# Altium footprint library powerDevices.PcbLib: 11 footprints
Each footprint in its own frame and in the unit in brackets; x right, y up, seen from the top. Pads: shape width x height; smd on the part's side, far side on the other; paste and mask are expansions set on the pad; w line width, h text height; cw(c..) or ccw(c..) is an arc to the next point about the centre after c.
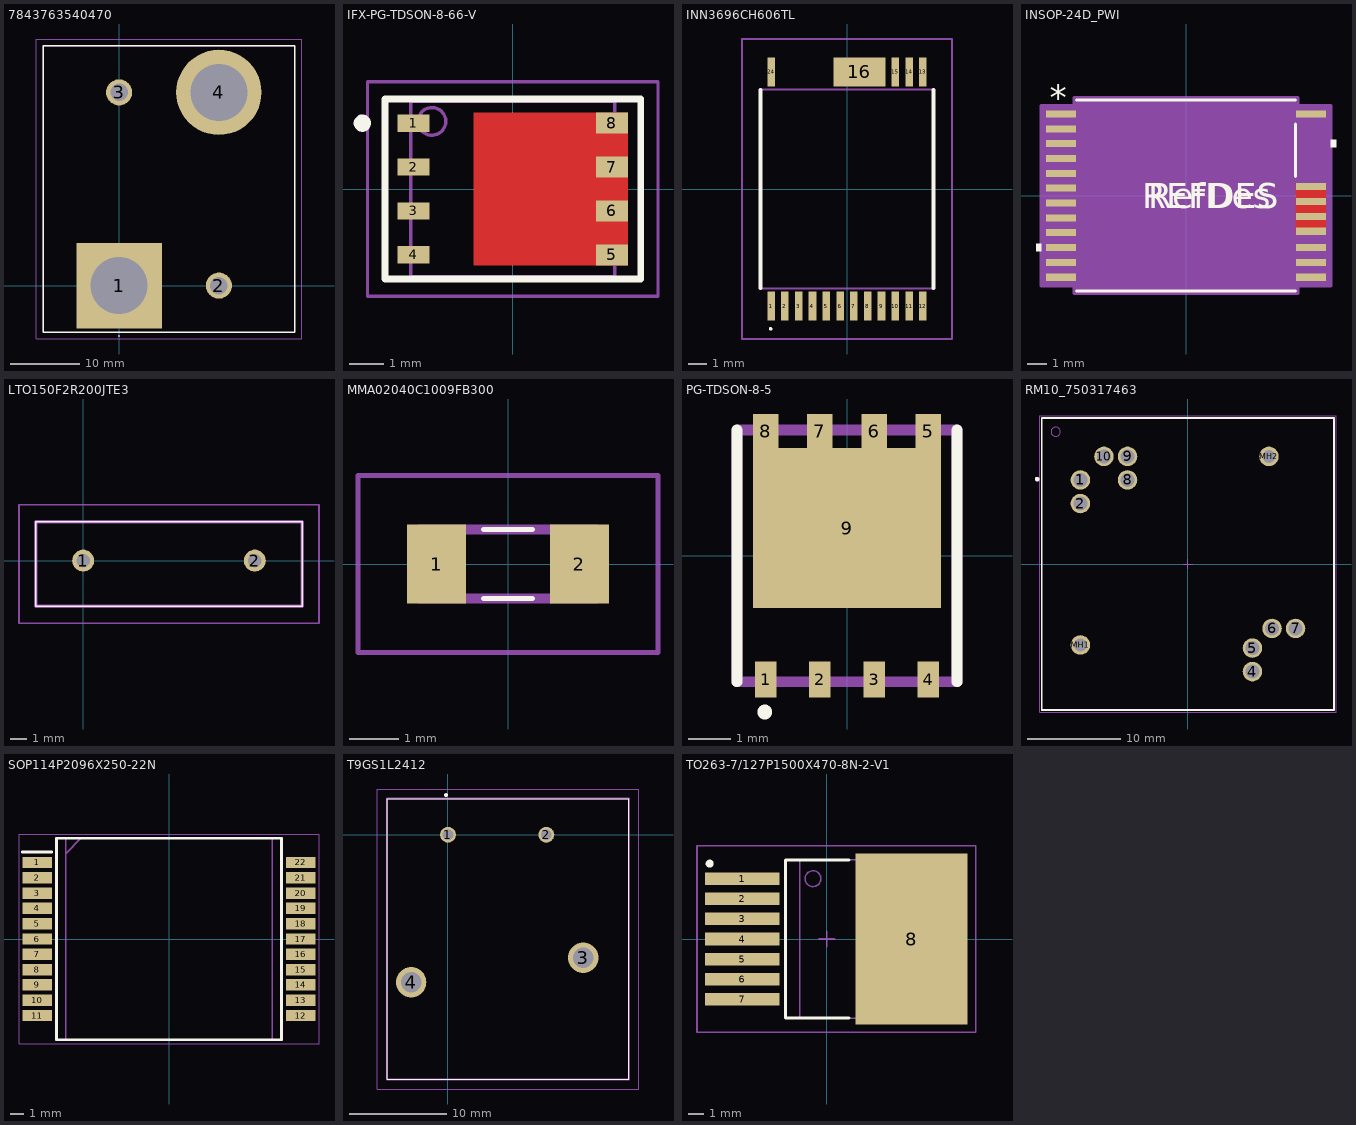
[diagram p0: the footprints below, top view; thin cyan lines are the x and y axes]

## 7843763540470 [mm]
pads (4):
  rect 12.24x12.24 hole 8.16: 1(0,0)
  round 3.75 hole 2.5: 2(14.3,0) 3(0,27.7)
  round 12.24 hole 8.16: 4(14.3,27.7)
Top Overlay:
  lines w0.1: 0,-7.25 ccw(c0,-7.2) 0,-7.15 ccw(c0,-7.2) 0,-7.25
  lines w0.2: -10.85,-6.65 25.15,-6.65 25.15,34.35 -10.85,34.35 -10.85,-6.65
Mechanical 13:
  lines w0.1: -10.85,-6.65 25.15,-6.65 25.15,34.35 -10.85,34.35 -10.85,-6.65
Mechanical 15:
  lines w0.1: -11.85,-7.65 26.15,-7.65 26.15,35.35 -11.85,35.35 -11.85,-7.65
3D body "7843763540470.stp": height 35.1, standoff -5, extent -10.85,-6.65 25.15,34.35

## IFX-PG-TDSON-8-66-V [mm] "PG-TDSON-8-66, SMD, 1.27 mm pitch, 8 pin, 5.90 mm L X 5.075 mm W X 1.20 mm H body"
height 1.2
pads (8):
  rect 0.925x0.5 smd paste-0.05 mask+0: 1(-2.863,1.905) 2(-2.863,0.635) 3(-2.863,-0.635) 4(-2.863,-1.905)
  rect 0.925x0.6 smd paste-0.3 mask+0: 5(2.863,-1.905) 6(2.863,-0.635) 7(2.863,0.635) 8(2.863,1.905)
Top Layer:
  region: 3.325,-2.205 3.325,2.205 -1.13,2.205 -1.13,-2.205
Top Overlay:
  circle w0.25: c-4.35,1.905 r0.125
  lines w0.2: -3.7,-2.6 3.7,-2.6 3.7,2.6 -3.7,2.6 -3.7,-2.6
Top Paste:
  region: -0.875,1.6 0.625,1.6 0.625,0.1 -0.875,0.1
  region: 2.525,1.655 2.525,2.155 3.275,2.155 3.275,1.655
  region: 2.525,0.385 2.525,0.885 3.275,0.885 3.275,0.385
  region: 2.525,-0.885 2.525,-0.385 3.275,-0.385 3.275,-0.885
  region: 2.525,-2.155 2.525,-1.655 3.275,-1.655 3.275,-2.155
  region: 0.825,1.6 2.325,1.6 2.325,0.1 0.825,0.1
  region: -0.875,-1.6 0.625,-1.6 0.625,-0.1 -0.875,-0.1
  region: 0.825,-1.6 2.325,-1.6 2.325,-0.1 0.825,-0.1
Top Solder:
  region: -1.129,-2.205 -1.129,2.205 2.526,2.205 2.526,-2.205
Top 3D Body:
  text ".DESIGNATOR" at -3.643,-0.385 h1.2
Mechanical 13:
  circle w0.1: c-2.337,1.956 r0.4
  lines w0.1: -2.95,-2.538 2.95,-2.538 2.95,2.538 -2.95,2.538 -2.95,-2.538
Mechanical 15:
  lines w0.1: -0.5,0 0.5,0 ; 0,-0.5 0,0.5 ; -4.2,-3.1 -4.2,3.1 4.2,3.1 4.2,-3.1 -4.2,-3.1
3D body "PG-TDSON-8-1_Z8B00003242_V11_3D.stp": height 1.01, standoff 0, extent -3.075,-2.695 3.075,2.695

## INN3696CH606TL [mm]
pads (17):
  rect 0.41x1.58 smd: 1(-4.125,-6.36) 2(-3.375,-6.36) 3(-2.625,-6.36) 4(-1.875,-6.36) 5(-1.125,-6.36) 6(-0.375,-6.36) 7(0.375,-6.36) 8(1.125,-6.36) 9(1.875,-6.36) 10(2.625,-6.36) 11(3.375,-6.36) 12(4.125,-6.36) 13(4.125,6.36) 14(3.375,6.36) 15(2.625,6.36) 24(-4.125,6.36)
  rect 2.81x1.58 smd: 16(0.675,6.36)
Top Overlay:
  lines w0.1: -4.2,-7.6 cw(c-4.15,-7.6) -4.1,-7.6 cw(c-4.15,-7.6) -4.2,-7.6
  lines w0.2: -4.7,-5.4 -4.7,5.4 ; 4.7,-5.4 4.7,5.4
Mechanical 13:
  lines w0.1: -4.7,-5.4 -4.7,5.4 4.7,5.4 4.7,-5.4 -4.7,-5.4
Mechanical 15:
  lines w0.1: -5.7,-8.15 -5.7,8.15 5.7,8.15 5.7,-8.15 -5.7,-8.15
3D body "INN3696C-H606-TL.stp": height 1.6, standoff 0, extent -4.7,-6.715 4.7,6.715

## INSOP-24D_PWI [mil]
pads (20):
  rect 60x14 smd paste+0 mask+0: 1(-248.5,162.4) 2(-248.5,132.87) 3(-248.5,103.35) 4(-248.5,73.82) 5(-248.5,44.29) 6(-248.5,14.76) 7(-248.5,-14.76) 8(-248.5,-44.29) 9(-248.5,-73.82) 10(-248.5,-103.35) 11(-248.5,-132.87) 12(-248.5,-162.4) 13(248.5,-162.4) 14(248.5,-132.87) 15(248.5,-103.35) 16(248.5,-70.87) 17(248.5,-41.34) 18(248.5,-11.81) 19(248.5,17.72) 24(248.5,162.4)
Top Layer:
  region: 218.5,-77.87 218.5,24.72 278.5,24.72 278.5,-77.87
Top Overlay:
  region: -288.5,-95.85 -298.5,-95.85 -298.5,-110.85 -288.5,-110.85
  region: 288.5,110.85 298.5,110.85 298.5,95.85 288.5,95.85
  lines w6: -217.5,-190 217.5,-190 ; -217.5,190 217.5,190 ; 217.5,37.78 217.5,142.34
  text "*" at -271,171.4 h50
  text "RefDes" at -75,-25 h50
  text "REFDES" at -87.5,-25 h50
Mechanical 13:
  lines w0: -12,185 ccw(c0,185) 12,185
  lines w1: -264.5,-168.4 -264.5,-156.4 -212.5,-156.4 -212.5,-168.4 -264.5,-168.4 ; -264.5,-138.87 -264.5,-126.87 -212.5,-126.87 -212.5,-138.87 -264.5,-138.87 ; -264.5,-109.35 -264.5,-97.35 -212.5,-97.35 -212.5,-109.35 -264.5,-109.35 ; -264.5,-79.82 -264.5,-67.82 -212.5,-67.82 -212.5,-79.82 -264.5,-79.82 ; -264.5,-50.29 -264.5,-38.29 -212.5,-38.29 -212.5,-50.29 -264.5,-50.29 ; -264.5,-20.76 -264.5,-8.76 -212.5,-8.76 -212.5,-20.76 -264.5,-20.76 ; -264.5,8.76 -264.5,20.76 -212.5,20.76 -212.5,8.76 -264.5,8.76 ; -264.5,38.29 -264.5,50.29 -212.5,50.29 -212.5,38.29 -264.5,38.29 ; -264.5,67.82 -264.5,79.82 -212.5,79.82 -212.5,67.82 -264.5,67.82 ; -264.5,97.35 -264.5,109.35 -212.5,109.35 -212.5,97.35 -264.5,97.35 ; -264.5,126.87 -264.5,138.87 -212.5,138.87 -212.5,126.87 -264.5,126.87 ; -264.5,156.4 -264.5,168.4 -212.5,168.4 -212.5,156.4 -264.5,156.4 ; -212.5,-185 212.5,-185 212.5,185 -212.5,185 -212.5,-185 ; 212.5,-168.4 212.5,-156.4 264.5,-156.4 264.5,-168.4 212.5,-168.4 ; 212.5,-138.87 212.5,-126.87 264.5,-126.87 264.5,-138.87 212.5,-138.87 ; 212.5,-109.35 212.5,-97.35 264.5,-97.35 264.5,-109.35 212.5,-109.35 ; 212.5,-76.87 212.5,-64.87 264.5,-64.87 264.5,-76.87 212.5,-76.87 ; 212.5,-47.34 212.5,-35.34 264.5,-35.34 264.5,-47.34 212.5,-47.34 ; 212.5,-17.81 212.5,-5.81 264.5,-5.81 264.5,-17.81 212.5,-17.81 ; 212.5,11.72 212.5,23.72 264.5,23.72 264.5,11.72 212.5,11.72 ; 212.5,156.4 212.5,168.4 264.5,168.4 264.5,156.4 212.5,156.4
  text "*" at -210,132 h50
  text "RefDes2" at -87.5,-25 h50
Mechanical 15:
  region: -222.5,-179.4 -288.5,-179.4 -288.5,179.4 -222.5,179.4 -222.5,195 222.5,195 222.5,179.4 288.5,179.4 288.5,-179.4 222.5,-179.4 222.5,-195 -222.5,-195
  lines w6: -288.5,-179.4 -288.5,179.4 -222.5,179.4 -222.5,195 222.5,195 222.5,179.4 288.5,179.4 288.5,-179.4 222.5,-179.4 222.5,-195 -222.5,-195 -222.5,-179.4 -288.5,-179.4
3D body "INSOP-24D_PWI.step": height 63.11, standoff 0, extent -264.49,-185 264.49,185

## LTO150F2R200JTE3 [mm]
pads (2):
  round 1.3 hole 0.8: 1(0,0) 2(10.16,0)
Top Overlay:
  lines w0.1: -2.8,-2.7 -2.8,2.3 12.96,2.3 12.96,-2.7 -2.8,-2.7
Mechanical 13:
  lines w0.2: -2.8,-2.7 -2.8,2.3 12.96,2.3 12.96,-2.7 -2.8,-2.7
Mechanical 15:
  lines w0.1: -3.8,-3.7 -3.8,3.3 13.96,3.3 13.96,-3.7 -3.8,-3.7
3D body "LTO150F2R200JTE3.stp": height 21.1, standoff -5, extent -2.8,-2.7 12.96,2.3

## MMA02040C1009FB300 [mm]
pads (2):
  rect 1.2x1.6 smd: 1(-1.45,0) 2(1.45,0)
Top Overlay:
  lines w0.1: -0.5,-0.7 0.5,-0.7 ; -0.5,0.7 0.5,0.7
Mechanical 13:
  lines w0.2: -1.8,-0.7 -1.8,0.7 1.8,0.7 1.8,-0.7 -1.8,-0.7
Mechanical 15:
  lines w0.1: -3.05,-1.8 -3.05,1.8 3.05,1.8 3.05,-1.8 -3.05,-1.8
3D body "MMA02040C1009FB300.stp": height 1.4, standoff 0, extent -1.8,-0.7 1.8,0.7

## PG-TDSON-8-5 [mm]
pads (9):
  rect 0.5x0.85 smd: 1(-1.905,-2.9) 2(-0.635,-2.9) 3(0.635,-2.9) 4(1.905,-2.9)
  rect 0.6x0.8 smd: 5(1.905,2.925) 6(0.635,2.925) 7(-0.635,2.925) 8(-1.905,2.925)
  rect 4.41x3.75 smd: 9(0,0.65)
Top Overlay:
  circle w0.254: c-1.927,-3.662 r0.046
  lines w0.254: -2.575,-2.95 -2.575,2.95 ; 2.575,-2.95 2.575,2.95
Mechanical 13:
  lines w0.254: -2.575,-2.95 -2.575,2.95 2.575,2.95 2.575,-2.95 -2.575,-2.95
3D body "BSC070N10LS5ATMA1.stp": height 1, standoff 0, extent -2.697,-3.308 2.693,2.842

## RM10_750317463 [mm] "Offline Flyback Transformer, THT, body 31.50 x 31.50 mm"
height 20.5
pads (11):
  round 2.1 hole 1.5: 1(-11.595,9.055) 2(-11.595,6.515) 4(6.945,-11.595) 5(6.945,-9.055) 6(9.055,-6.945) 7(11.595,-6.945) 8(-6.515,9.055) 9(-6.515,11.595) 10(-9.055,11.595)
  round 2.1 hole 1.4: MH1(-11.595,-8.725) MH2(8.725,11.595)
Top Overlay:
  circle w0.25: c-16.25,9.15 r0.125
  lines w0.2: -15.75,-15.75 15.75,-15.75 15.75,15.75 -15.75,15.75 -15.75,-15.75
Top Courtyard:
  lines w0.05: -15.95,-15.95 15.95,-15.95 15.95,15.95 -15.95,15.95 -15.95,-15.95
Top Component Outline:
  circle w0.1: c-14.25,14.25 r0.5
  lines w0.1: -15.75,-15.75 15.75,-15.75 15.75,15.75 -15.75,15.75 -15.75,-15.75
Top Component Center:
  lines w0.05: -0.5,0 0.5,0 ; 0,-0.5 0,0.5
Top Designator:
  text ".Designator" at -7.498,-0.5 h1.5
3D body "Download_STP_070-6920_MP3 (rev1).STEP": height 19.27, standoff -2.7, extent -13.855,-13.339 13.342,13.858

## SOP114P2096X250-22N [mm]
pads (22):
  rect 2.2x0.85 smd: 1(-9.825,5.7) 2(-9.825,4.56) 3(-9.825,3.42) 4(-9.825,2.28) 5(-9.825,1.14) 6(-9.825,0) 7(-9.825,-1.14) 8(-9.825,-2.28) 9(-9.825,-3.42) 10(-9.825,-4.56) 11(-9.825,-5.7) 12(9.825,-5.7) 13(9.825,-4.56) 14(9.825,-3.42) 15(9.825,-2.28) 16(9.825,-1.14) 17(9.825,0) 18(9.825,1.14) 19(9.825,2.28) 20(9.825,3.42) 21(9.825,4.56) 22(9.825,5.7)
Top Overlay:
  lines w0.2: -10.925,6.475 -8.725,6.475 ; -8.375,-7.5 8.375,-7.5 8.375,7.5 -8.375,7.5 -8.375,-7.5
Mechanical 13:
  lines w0.1: -7.7,6.36 -6.56,7.5 ; -7.7,-7.5 7.7,-7.5 7.7,7.5 -7.7,7.5 -7.7,-7.5
Mechanical 15:
  lines w0.05: -11.175,-7.8 11.175,-7.8 11.175,7.8 -11.175,7.8 -11.175,-7.8
3D body "AIMDQ75R060M2HXTMA1.stp": height 2.5, standoff 0, extent -10.48,-7.5 10.48,7.5

## T9GS1L2412 [mm]
pads (4):
  round 1.65 hole 1.1: 1(0,0) 2(10.16,0)
  round 3.15 hole 2.1: 3(13.97,-12.7) 4(-3.81,-15.24)
Top Overlay:
  lines w0.1: -6.3,-25.27 18.7,-25.27 18.7,3.73 -6.3,3.73 -6.3,-25.27
  lines w0.2: -0.2,4 cw(c-0.2,4.1) -0.2,4.2 cw(c-0.2,4.1) -0.2,4
Mechanical 13:
  lines w0.2: -6.3,-25.27 18.7,-25.27 18.7,3.73 -6.3,3.73 -6.3,-25.27
Mechanical 15:
  lines w0.1: -7.3,-26.27 19.7,-26.27 19.7,4.73 -7.3,4.73 -7.3,-26.27
3D body "T9GS1L14-12.stp": height 18.06, standoff -0.89, extent -5.88,-24.59 15.52,4.31

## TO263-7/127P1500X470-8N-2-V1 [mm] "TO,1.27mm pitch;7 pin,15.00mm L X 9.25mm W X 4.70mm H body"
height 4.7
pads (8):
  rect 4.7x0.8 smd paste-0.05 mask+0: 1(-5.35,3.81) 2(-5.35,2.54) 3(-5.35,1.27) 4(-5.35,0) 5(-5.35,-1.27) 6(-5.35,-2.54) 7(-5.35,-3.81)
  rect 7.1x10.8 smd paste-3.55 mask+0: 8(5.35,0)
Top Overlay:
  circle w0.25: c-7.4,4.76 r0.125
  lines w0.2: 1.4,-5 -2.6,-5 -2.6,5 1.4,5
Top Paste:
  region: 5.195,-0.15 1.845,-0.15 1.845,-5.35 5.195,-5.35
  region: 5.195,5.35 1.845,5.35 1.845,0.15 5.195,0.15
  region: 8.845,-0.15 5.495,-0.15 5.495,-5.35 8.845,-5.35
  region: 8.845,5.35 5.495,5.35 5.495,0.15 8.845,0.15
Mechanical 13:
  circle w0.1: c-0.871,3.81 r0.5
  lines w0.1: -1.7,-5 7.55,-5 7.55,5 -1.7,5 -1.7,-5
Mechanical 15:
  lines w0.1: -0.5,0 0.5,0 ; 0,-0.5 0,0.5 ; -8.2,-5.9 9.4,-5.9 9.4,5.9 -8.2,5.9 -8.2,-5.9
3D body "PG-TO263-7-12_Z8B00189320_01_3D.stp": height 4.51, standoff 0, extent -6.4,-5 8.55,5